# Altium footprint library pcb.PcbLib: 6 footprints
Each footprint in its own frame and in the unit in brackets; x right, y up, seen from the top. Pads: shape width x height; smd on the part's side, far side on the other; paste and mask are expansions set on the pad; w line width, h text height; cw(c..) or ccw(c..) is an arc to the next point about the centre after c.
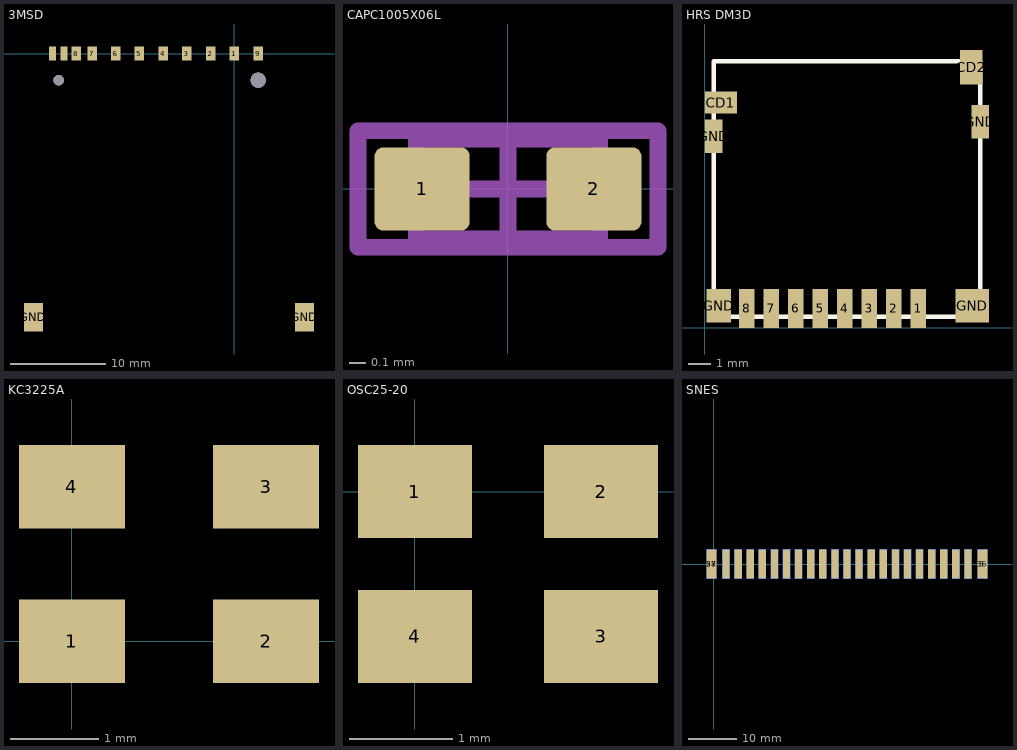
[diagram p0: the footprints below, top view; thin cyan lines are the x and y axes]

## 3MSD [mm]
pads (15):
  rect 1x1.5 smd: 1(0,0) 2(-2.5,0) 3(-5,0) 4(-7.5,0) 5(-10,0) 6(-12.5,0) 7(-14.93,0) 8(-16.63,0) 9(2.5,0)
  rect 0.7x1.5 smd: CD(-17.93,0) WP(-19.13,0)
  rect 2x3 smd: GND(-21.16,-27.75) GND(7.4,-27.75)
  round 1.1 hole 1.1 unplated: ""(-18.5,-2.8)
  round 1.6 hole 1.6 unplated: ""(2.5,-2.8)

## CAPC1005X06L [mm] "Chip Capacitor, 2-Leads, Body 1,0x0,5mm, IPC High Density"
height 0.6
pads (2):
  rrect20% 0.57x0.5 smd: 1(-0.515,0) 2(0.515,0)
Mechanical 13:
  lines w0.1: -0.55,-0.3 -0.55,0.3 0.55,0.3 0.55,-0.3 -0.55,-0.3
Mechanical 15:
  lines w0.1: -0.3,0 0.3,0 ; 0,-0.3 0,0.3 ; -0.9,-0.35 -0.9,0.35 0.9,0.35 0.9,-0.35 -0.9,-0.35
3D body: height 0.6, standoff 0, extent -0.55,-0.3 0.55,0.3

## HRS DM3D [mm]
pads (14):
  rect 0.7x1.75 smd: 1(9.575,0.875) 2(8.475,0.875) 3(7.375,0.875) 4(6.275,0.875) 5(5.175,0.875) 6(4.075,0.875) 7(2.975,0.875) 8(1.875,0.875)
  rect 1.45x1 smd: CD1(0.725,10.1)
  rect 1x1.55 smd: CD2(11.95,11.675)
  rect 0.8x1.5 smd: GND(0.4,8.6) GND(12.35,9.25)
  rect 1.1x1.5 smd: GND(0.63,1)
  rect 1.5x1.5 smd: GND(12,1)
Top Overlay:
  lines w0.2: 0.4,0.5 12.35,0.5 12.35,11.95 0.4,11.95 0.4,0.5

## KC3225A [mm]
pads (4):
  rect 1.2x0.95 smd: 1(0,0) 2(2.2,0) 3(2.2,1.75) 4(0,1.75)

## OSC25-20 [mm]
pads (4):
  rect 1.1x0.9 smd: 1(0,0) 2(1.8,0) 3(1.8,-1.4) 4(0,-1.4)

## SNES [mm]
pads (46):
  rect 2x6 smd far side paste-999: 5(55.5,0) 27(-0.5,0)
  rect 1.5x6 smd far side paste-999: 6(52.5,0) 7(50,0) 8(47.5,0) 9(45,0) 10(42.5,0) 11(40,0) 12(37.5,0) 13(35,0) 14(32.5,0) 15(30,0) 16(27.5,0) 17(25,0) 18(22.5,0) 19(20,0) 20(17.5,0) 21(15,0) 22(12.5,0) 23(10,0) 24(7.5,0) 25(5,0) 26(2.5,0)
  rect 2x6 smd paste-999: 36(55.5,0) 58(-0.5,0)
  rect 1.5x6 smd paste-999: 37(52.5,0) 38(50,0) 39(47.5,0) 40(45,0) 41(42.5,0) 42(40,0) 43(37.5,0) 44(35,0) 45(32.5,0) 46(30,0) 47(27.5,0) 48(25,0) 49(22.5,0) 50(20,0) 51(17.5,0) 52(15,0) 53(12.5,0) 54(10,0) 55(7.5,0) 56(5,0) 57(2.5,0)